# Altium schematic symbol library SCH - MCU - ATMEGA - MICROCHIP ATXMEGA128B3-AU TQFP64.SchLib: 1 symbol
Pins are listed as number, name and electrical type; pins without a type are passive.

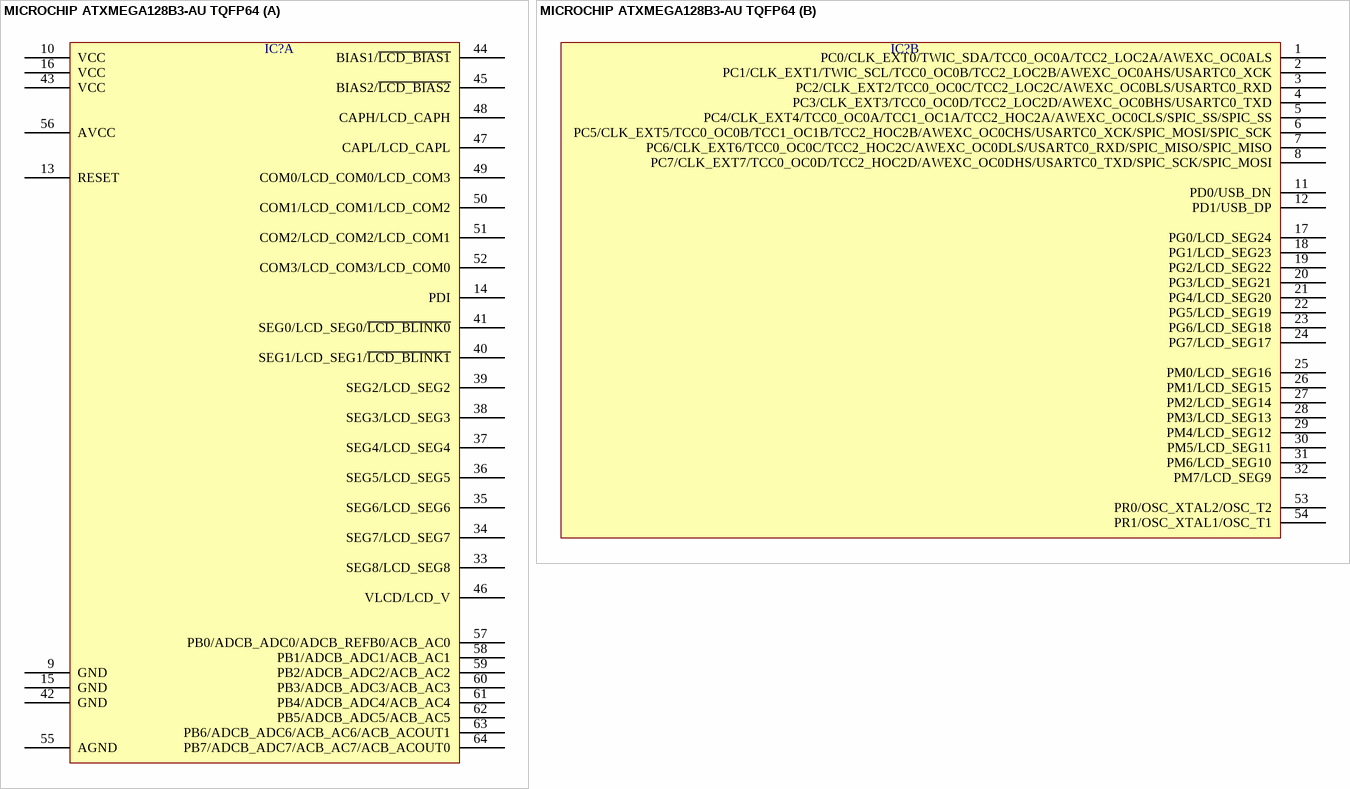
[diagram p0: symbol MICROCHIP ATXMEGA128B3-AU TQFP64]

## MICROCHIP ATXMEGA128B3-AU TQFP64
designator IC?  (value not drawn)
part A pins: 9 GND, 10 VCC, 13 RESET, 14 PDI, 15 GND, 16 VCC, 33 SEG8/LCD_SEG8, 34 SEG7/LCD_SEG7, 35 SEG6/LCD_SEG6, 36 SEG5/LCD_SEG5, 37 SEG4/LCD_SEG4, 38 SEG3/LCD_SEG3, 39 SEG2/LCD_SEG2, 40 SEG1/LCD_SEG1/~{LCD_BLINK1}, 41 SEG0/LCD_SEG0/~{LCD_BLINK0}, 42 GND, 43 VCC, 44 BIAS1/~{LCD_BIAS1}, 45 BIAS2/~{LCD_BIAS2}, 46 VLCD/LCD_V, 47 CAPL/LCD_CAPL, 48 CAPH/LCD_CAPH, 49 COM0/LCD_COM0/LCD_COM3, 50 COM1/LCD_COM1/LCD_COM2, 51 COM2/LCD_COM2/LCD_COM1, 52 COM3/LCD_COM3/LCD_COM0, 55 AGND, 56 AVCC, 57 PB0/ADCB_ADC0/ADCB_REFB0/ACB_AC0, 58 PB1/ADCB_ADC1/ACB_AC1, 59 PB2/ADCB_ADC2/ACB_AC2, 60 PB3/ADCB_ADC3/ACB_AC3, 61 PB4/ADCB_ADC4/ACB_AC4, 62 PB5/ADCB_ADC5/ACB_AC5, 63 PB6/ADCB_ADC6/ACB_AC6/ACB_ACOUT1, 64 PB7/ADCB_ADC7/ACB_AC7/ACB_ACOUT0
part B pins: 1 PC0/CLK_EXT0/TWIC_SDA/TCC0_OC0A/TCC2_LOC2A/AWEXC_OC0ALS, 2 PC1/CLK_EXT1/TWIC_SCL/TCC0_OC0B/TCC2_LOC2B/AWEXC_OC0AHS/USARTC0_XCK, 3 PC2/CLK_EXT2/TCC0_OC0C/TCC2_LOC2C/AWEXC_OC0BLS/USARTC0_RXD, 4 PC3/CLK_EXT3/TCC0_OC0D/TCC2_LOC2D/AWEXC_OC0BHS/USARTC0_TXD, 5 PC4/CLK_EXT4/TCC0_OC0A/TCC1_OC1A/TCC2_HOC2A/AWEXC_OC0CLS/SPIC_SS/SPIC_SS, 6 PC5/CLK_EXT5/TCC0_OC0B/TCC1_OC1B/TCC2_HOC2B/AWEXC_OC0CHS/USARTC0_XCK/SPIC_MOSI/SPIC_SCK, 7 PC6/CLK_EXT6/TCC0_OC0C/TCC2_HOC2C/AWEXC_OC0DLS/USARTC0_RXD/SPIC_MISO/SPIC_MISO, 8 PC7/CLK_EXT7/TCC0_OC0D/TCC2_HOC2D/AWEXC_OC0DHS/USARTC0_TXD/SPIC_SCK/SPIC_MOSI, 11 PD0/USB_DN, 12 PD1/USB_DP, 17 PG0/LCD_SEG24, 18 PG1/LCD_SEG23, 19 PG2/LCD_SEG22, 20 PG3/LCD_SEG21, 21 PG4/LCD_SEG20, 22 PG5/LCD_SEG19, 23 PG6/LCD_SEG18, 24 PG7/LCD_SEG17, 25 PM0/LCD_SEG16, 26 PM1/LCD_SEG15, 27 PM2/LCD_SEG14, 28 PM3/LCD_SEG13, 29 PM4/LCD_SEG12, 30 PM5/LCD_SEG11, 31 PM6/LCD_SEG10, 32 PM7/LCD_SEG9, 53 PR0/OSC_XTAL2/OSC_T2, 54 PR1/OSC_XTAL1/OSC_T1